# Altium footprint library PHOENIX_MKDS_9.53MM_3x1.PcbLib: 1 footprints
Each footprint in its own frame and in the unit in brackets; x right, y up, seen from the top. Pads: shape width x height; smd on the part's side, far side on the other; paste and mask are expansions set on the pad; w line width, h text height; cw(c..) or ccw(c..) is an arc to the next point about the centre after c.
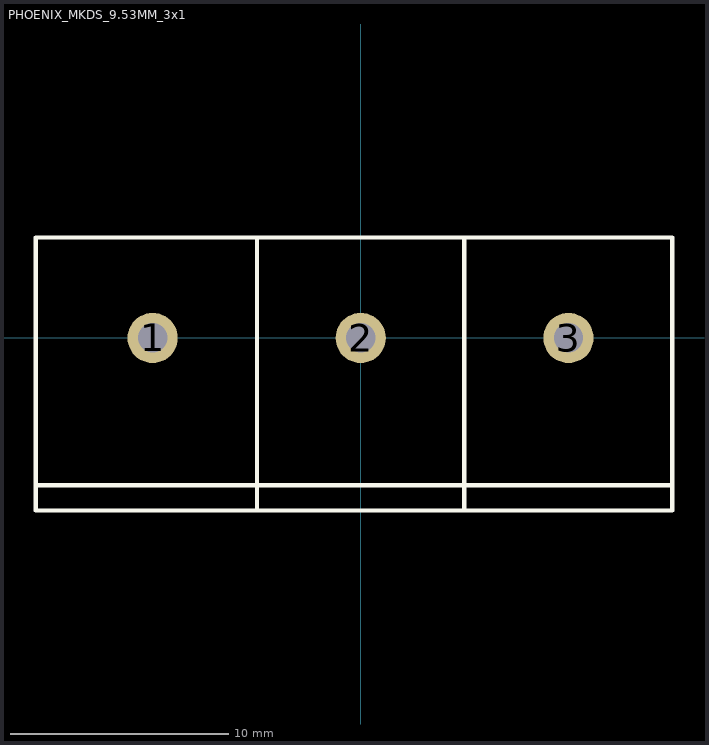
[diagram p0: the footprint, top view; thin cyan lines are the x and y axes]

## PHOENIX_MKDS_9.53MM_3x1 [mm]
pads (3):
  round 2.3 hole 1.35: 1(-9.53,0) 2(0,0) 3(9.52,0)
Top Overlay:
  lines w0.2: -14.88,-6.75 14.27,-6.75 ; -4.75,-7.9 -4.75,4.6 ; 4.75,-7.9 4.75,4.6 ; -14.88,-7.9 14.27,-7.9 14.27,4.6 -14.88,4.6 -14.88,-7.9
3D body "PHOENIX_1714984_MKDS_9-53mm_3x1.stp": height 21.5, standoff -5, extent -14.86,-7.9 14.27,4.6